# EAGLE library part 760875142 (library Wurth Electronics Midcom Inc - EAGLE Lib V2-1)
Package Style: EPT18 Mounting: SMD Pins: 8 pins Bobbin: 070-5734 Best pinouts for production vary per application. Please contact Wurth Electronics Midcom, Inc. for assistance with your custom design. Website: Wurth Electronics Midcom <http://www.we-online.com/midcom> Contact us Wurth Electronics Midcom, Inc. 121 Airport Dr. Watertown, SD 57201 Phone: (605) 886-4385 Fax: (605) 886-4486 E-Mail: midcom@we-online.com
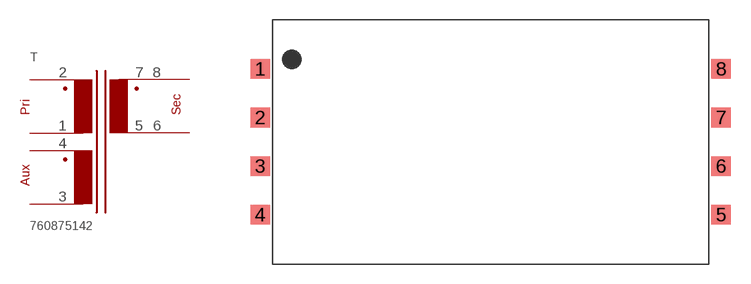
[diagram p74: symbol with the pads of EPT18_SMD_H_8PIN_(5734); footprint EPT18_SMD_H_8PIN_(5734)]

Designator prefix T

## 760875142  [EPT18_SMD_H_8PIN_(5734)]
1  1  pas
2  2  pas
3  3  pas
4  4  pas
5  5  pas
6  6  pas
7  7  pas
8  8  pas

## Footprint EPT18_SMD_H_8PIN_(5734) (pad centres in mm)
Package Style: EPT18 Mounting: SMD Pins: 8 Bobbin: 070-5734
smd 1.499 x 1.499: 1 -17.691,5.601; 2 -17.691,1.867; 3 -17.691,-1.867; 4 -17.691,-5.601; 5 17.691,-5.601; 6 17.691,-1.867; 7 17.691,1.867; 8 17.691,5.601